# EAGLE library part SS-6466S-A-PG1 (library SS-6466S-A-PG1)
Modular Connectors / Ethernet Connectors RJ45 Connector Source: Datasheet <http://www.mouser.com/ds/2/643/CT640176-531832.pdf>
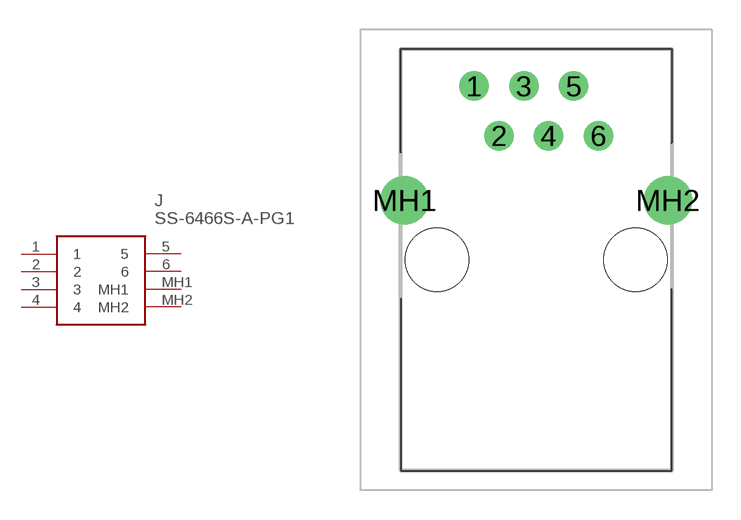
[diagram p0: symbol with the pads of SS6466SAPG1; footprint SS6466SAPG1]

Designator prefix J

## SS-6466S-A-PG1 (Arrow_Part_Number: SS-6466S-A-PG1; Arrow_Price-Stock: https://www.arrow.com/en/products/ss-6466s-a-pg1/bel-group; Description: Modular Connectors / Ethernet Connectors RJ45 Connector; Height: 13.97mm; Manufacturer_Name: Stewart Connector; Manufacturer_Part_Number: SS-6466S-A-PG1; Mouser_Part_Number: 530-SS-6466S-A-PG1; Mouser_Price-Stock: https://www.mouser.com/Search/Refine.aspx?Keyword=530-SS-6466S-A-PG1)  [SS6466SAPG1]
1  1
2  2
3  3
4  4
5  5
6  6
MH1  MH1
MH2  MH2

## Footprint SS6466SAPG1 (pad centres in mm)
SS-6466S-A-PG1-1
drill 0.97 pad 1.509: 1 -3.175,8.89; 2 -1.905,6.35; 3 -0.635,8.89; 4 0.635,6.35; 5 1.905,8.89; 6 3.175,6.35
drill 1.65 pad 2.475: MH1 -6.73,3.05; MH2 6.73,3.05
hole 3.25 at -5.08,0
hole 3.25 at 5.08,0